# Altium footprint library WCAP-CSSA.PcbLib: 19 footprints (part 2 of 2)
Each footprint in its own frame and in the unit in brackets; x right, y up, seen from the top. Pads: shape width x height; smd on the part's side, far side on the other; paste and mask are expansions set on the pad; w line width, h text height; cw(c..) or ccw(c..) is an arc to the next point about the centre after c.
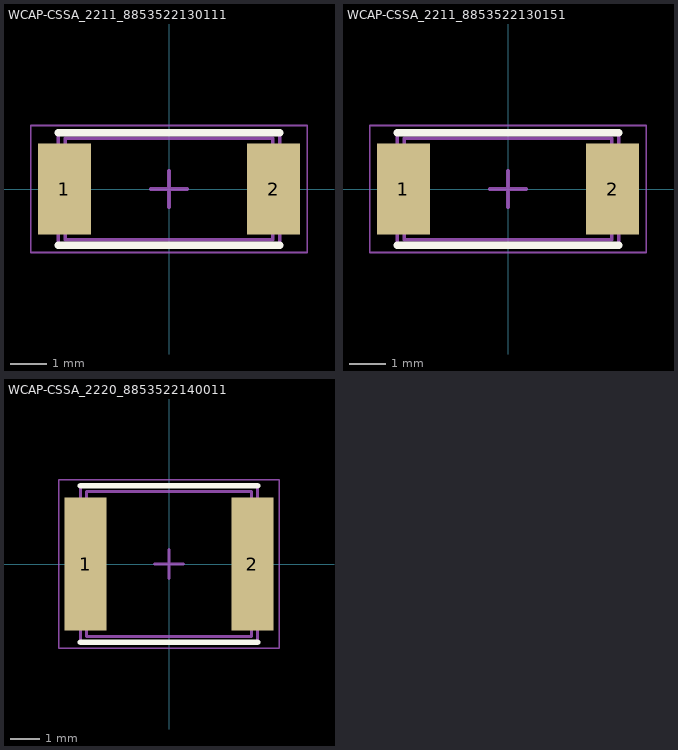
[diagram p1: the footprints below, top view; thin cyan lines are the x and y axes]

## WCAP-CSSA_2211_8853522130111 [mm] "Ceramic Capacitors, body 5.70x2.80mm"
height 2.5
pads (2):
  rect 1.45x2.5 smd: 1(-2.875,0) 2(2.875,0)
Top Overlay:
  lines w0.2: -3.05,-1.55 3.05,-1.55 ; -3.05,1.55 3.05,1.55
Top Assembly:
  lines w0.1: -3.05,-1.55 -3.05,1.55 3.05,1.55 3.05,-1.55 -3.05,-1.55
Top Designator:
  text ".Designator" at -3.647,-0.357 h1
Top 3D Body:
  lines w0.1: -2.85,-1.4 -2.85,1.4 2.85,1.4 2.85,-1.4 -2.85,-1.4
Top Courtyard:
  lines w0.05: -3.8,-1.75 -3.8,1.75 3.8,1.75 3.8,-1.75 -3.8,-1.75
Top Component Center:
  lines w0.1: -0.5,0 0.5,0 ; 0,-0.5 0,0.5
3D body "CAPC5728X25N.step": height 2.5, standoff 0, extent -2.85,-1.4 2.85,1.4

## WCAP-CSSA_2211_8853522130151 [mm] "Ceramic Capacitors, body 5.70x2.80mm"
height 2.5
pads (2):
  rect 1.45x2.5 smd: 1(-2.875,0) 2(2.875,0)
Top Overlay:
  lines w0.2: -3.05,-1.55 3.05,-1.55 ; -3.05,1.55 3.05,1.55
Top Assembly:
  lines w0.1: -3.05,-1.55 3.05,-1.55 3.05,1.55 -3.05,1.55 -3.05,-1.55
Top Designator:
  text ".Designator" at -3.647,-0.357 h1
Top 3D Body:
  lines w0.1: -2.85,-1.4 2.85,-1.4 2.85,1.4 -2.85,1.4 -2.85,-1.4
Top Courtyard:
  lines w0.05: -3.8,-1.75 3.8,-1.75 3.8,1.75 -3.8,1.75 -3.8,-1.75
Top Component Center:
  lines w0.1: -0.5,0 0.5,0 ; 0,-0.5 0,0.5
3D body "CAPC5728X25N.step": height 2.5, standoff 0, extent -2.85,-1.4 2.85,1.4

## WCAP-CSSA_2220_8853522140011 [mm] "Ceramic Capacitors, body 5.70x5.00mm"
height 2.5
pads (2):
  rect 1.45x4.6 smd: 1(-2.875,0) 2(2.875,0)
Top Overlay:
  lines w0.2: -3.05,-2.7 3.05,-2.7 ; -3.05,2.7 3.05,2.7
Top Assembly:
  lines w0.1: -3.05,-2.7 3.05,-2.7 3.05,2.7 -3.05,2.7 -3.05,-2.7
Top Designator:
  text ".Designator" at -3.647,-0.357 h1
Top 3D Body:
  lines w0.1: -2.85,-2.5 2.85,-2.5 2.85,2.5 -2.85,2.5 -2.85,-2.5
Top Courtyard:
  lines w0.05: -3.8,-2.9 3.8,-2.9 3.8,2.9 -3.8,2.9 -3.8,-2.9
Top Component Center:
  lines w0.1: -0.5,0 0.5,0 ; 0,-0.5 0,0.5
3D body "CAPC5750X25N.step": height 2.5, standoff 0, extent -2.85,-2.5 2.85,2.5